# EAGLE library part LIGHT_TCS3414 (library halcyonmod_Optoelectronics)
Taos TCS3414CS Digital Colour Light Sensor Mouser: 856-TCS3414CS
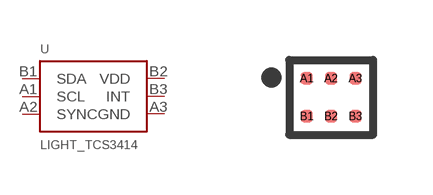
[diagram p2: symbol with the pads of TCS3414_CS6; footprint TCS3414_CS6]

Designator prefix U

## LIGHT_TCS3414  [TCS3414_CS6]
A1  SCL
A2  SYNC
A3  GND
B1  SDA
B2  VDD
B3  INT

## Footprint TCS3414_CS6 (pad centres in mm)
6 Lead Chipscale 0.30mm pads, 0.61mm pitch Source: http://www.taosinc.com/getfile.aspx?type=press&file=tcs3404cs-e46.pdf
smd 0.3 x 0.3: A1 -0.61,0.475; A2 0,0.475; A3 0.61,0.475; B1 -0.61,-0.475; B2 0,-0.475; B3 0.61,-0.475